# Altium footprint library Cap_sizes.PcbLib: 8 footprints
Each footprint in its own frame and in the unit in brackets; x right, y up, seen from the top. Pads: shape width x height; smd on the part's side, far side on the other; paste and mask are expansions set on the pad; w line width, h text height; cw(c..) or ccw(c..) is an arc to the next point about the centre after c.
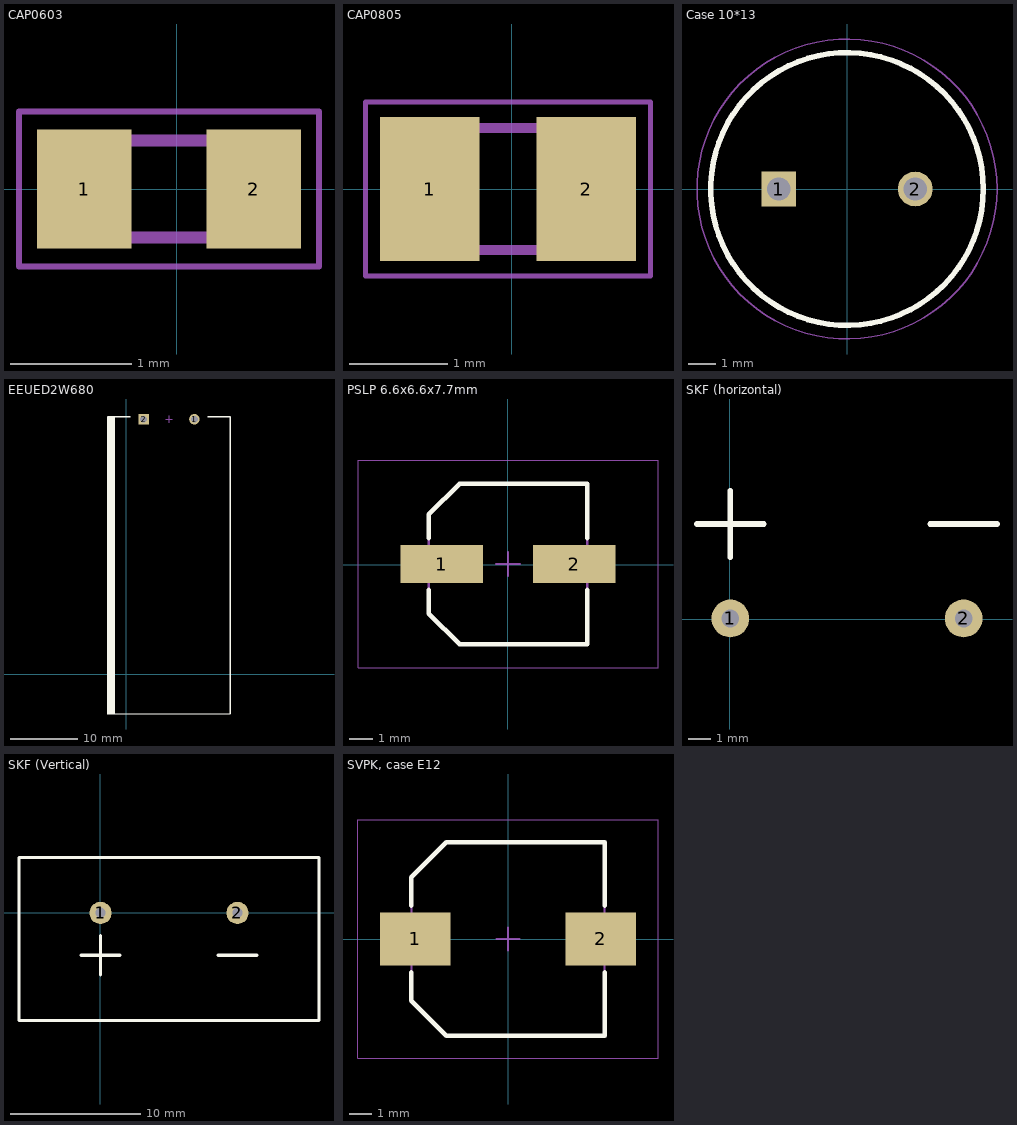
[diagram p0: the footprints below, top view; thin cyan lines are the x and y axes]

## CAP0603 [mm]
pads (2):
  rect 0.78x0.98 smd: 1(-0.765,0) 2(0.635,0)
Mechanical 13:
  lines w0.1: -0.865,-0.4 -0.865,0.4 0.735,0.4 0.735,-0.4 -0.865,-0.4
Mechanical 15:
  lines w0.05: -1.305,-0.64 -1.305,0.64 1.175,0.64 1.175,-0.64 -1.305,-0.64
3D body "C0603C103K5RACTU.stp": height 0.87, standoff 0, extent -0.865,-0.4 0.735,0.4

## CAP0805 [mm]
pads (2):
  rect 1.02x1.47 smd: 1(-0.838,0) 2(0.762,0)
Mechanical 13:
  lines w0.1: -1.038,-0.625 0.962,-0.625 0.962,0.625 -1.038,0.625 -1.038,-0.625
Mechanical 15:
  lines w0.05: -1.498,-0.89 1.422,-0.89 1.422,0.89 -1.498,0.89 -1.498,-0.89
3D body "C0805C106K8PACTU-2.5.stp": height 1.4, standoff 0, extent -1.038,-0.625 0.962,0.625

## Case 10*13 [mm]
pads (2):
  rect 1.275x1.275 hole 0.85: 1(-2.5,0)
  round 1.275 hole 0.85: 2(2.5,0)
Top Overlay:
  circle w0.2: c0,0 r5
Mechanical 13:
  circle w0.1: c0,0 r5
Mechanical 15:
  circle w0.05: c0,0 r5.5
3D body "16SEP330M+C3.stp": height 13, standoff -10, extent -5.25,-5.247 5.25,5.247

## EEUED2W680 [mm]
pads (2):
  round 1.55 hole 1 paste-1000 mask+0: 1(10.037,37.675)
  rect 1.55x1.55 hole 1 paste-1000 mask+0: 2(2.537,37.675)
Top Overlay:
  lines w0.2: 0.572,38.056 -2.095,38.056 -2.73,38.056 -2.73,-5.886 15.304,-5.886 15.304,38.056 14.669,38.056 12.002,38.056
  lines w0.3: -2.603,-5.759 -2.603,37.929 ; -2.349,-5.759 -2.349,37.929 ; -2.222,-5.759 -2.222,37.929 ; -2.095,-5.759 -2.095,37.929 ; -1.841,-5.759 -1.841,37.929
Mechanical 5:
  text ".Designator" at 6.287,37.863 h1
Mechanical 16:
  lines w0.1: 5.787,37.675 6.787,37.675 ; 6.287,37.175 6.287,38.175
3D body "Cap_Panasonic_ECA2DM331E_eec_H.x_t": height 18, standoff -2, extent -2.713,-5.849 15.287,38.051

## PSLP 6.6x6.6x7.7mm [mm]
pads (2):
  rect 3.5x1.6 smd: 1(-2.791,0.022) 2(2.809,0.022)
Top Overlay:
  lines w0.2: -3.341,-1.078 -3.341,-2.078 -2.041,-3.378 3.359,-3.378 3.359,-1.078 ; -3.341,1.122 -3.341,2.122 -2.041,3.422 3.359,3.422 3.359,1.122
Mechanical 13:
  lines w0.1: -3.341,-2.078 -3.341,2.122 -2.041,3.422 3.359,3.422 3.359,-3.378 -2.041,-3.378 -3.341,-2.078
Mechanical 15:
  lines w0.05: -6.341,-4.378 6.359,-4.378 6.359,4.422 -6.341,4.422 -6.341,-4.378
  lines w0.1: -0.491,0.022 0.509,0.022 ; 0.009,-0.478 0.009,0.522
3D body: height 7.7, standoff 0, extent -3.391,-3.378 3.409,3.422
3D body: height 2.57, standoff 0, extent -3.341,-3.378 3.359,3.422

## SKF (horizontal) [mm]
pads (2):
  round 1.7 hole 0.8: 1(0.025,0.025) 2(10.525,0.025)
Top Overlay:
  lines w0.254: -1.475,4.275 1.525,4.275 ; 0.025,2.775 0.025,5.775 ; 9.025,4.275 12.025,4.275
3D body "Supercap 2.5F 5.4V 10deg.STEP": height 13.99, standoff -4.5, extent -5.25,-2.825 15.75,24.872

## SKF (Vertical) [mm]
pads (2):
  round 1.7 hole 0.8: 1(0.025,-0.025) 2(10.525,-0.025)
Top Overlay:
  lines w0.254: -6.225,3.225 -6.225,4.225 ; -1.475,-3.275 1.525,-3.275 ; 0.025,-4.775 0.025,-1.775 ; 9.025,-3.275 12.025,-3.275 ; -6.225,4.225 16.775,4.225 16.775,-8.275 -6.225,-8.275 -6.225,4.225
3D body "Supercap 2.5F 5.4V_vert.x_t": height 23.5, standoff -4.5, extent -5.225,-7.325 15.775,3.175

## SVPK, case E12 [mm]
pads (2):
  rect 3.1x2.35 smd: 1(-4.077,0.002) 2(4.073,0.002)
Top Overlay:
  lines w0.2: -4.252,-1.473 -4.252,-2.711 -2.715,-4.248 4.248,-4.248 4.248,-1.473 ; -4.252,1.477 -4.252,2.714 -2.715,4.252 4.248,4.252 4.248,1.477
Mechanical 13:
  lines w0.1: -4.252,-2.711 -4.252,2.714 -2.715,4.252 4.248,4.252 4.248,-4.248 -2.715,-4.248 -4.252,-2.711
Mechanical 15:
  lines w0.05: -6.602,-5.248 6.598,-5.248 6.598,5.252 -6.602,5.252 -6.602,-5.248
  lines w0.1: -0.502,0.002 0.498,0.002 ; -0.002,-0.498 -0.002,0.502
3D body: height 12, standoff 0, extent -4.002,-3.998 3.998,3.996
3D body: height 4, standoff 0, extent -4.252,-4.248 4.248,4.252